# Altium footprint library DWM1000.PCBLIB: 1 footprints
Each footprint in its own frame and in the unit in brackets; x right, y up, seen from the top. Pads: shape width x height; smd on the part's side, far side on the other; paste and mask are expansions set on the pad; w line width, h text height; cw(c..) or ccw(c..) is an arc to the next point about the centre after c.
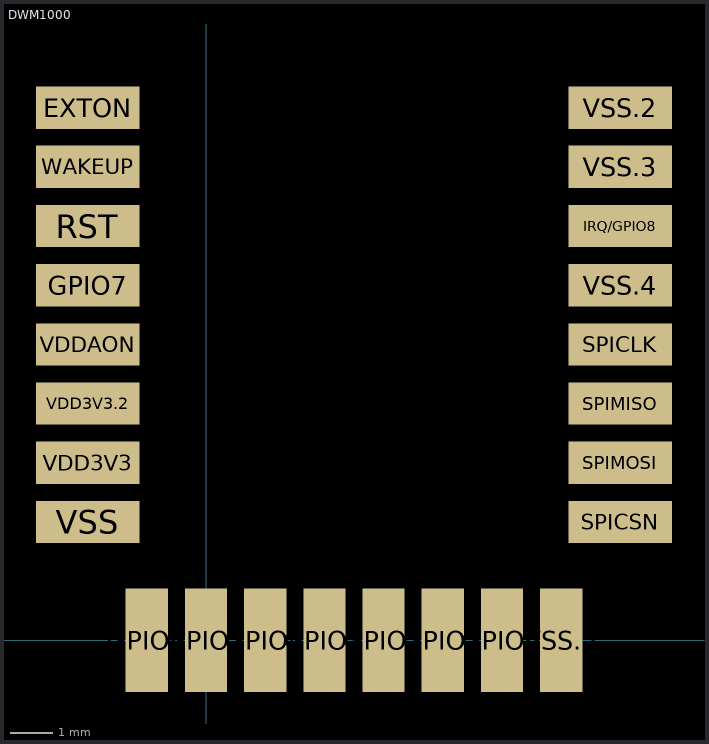
[diagram p0: the footprint, top view; thin cyan lines are the x and y axes]

## DWM1000 [mm]
pads (24):
  rect 2.45x1 smd: EXTON(-2.8,12.6) GPIO7(-2.8,8.4) IRQ/GPIO8(9.8,9.8) RST(-2.8,9.8) SPICLK(9.8,7) SPICSN(9.8,2.8) SPIMISO(9.8,5.6) SPIMOSI(9.8,4.2) VDD3V3(-2.8,4.2) VDD3V3.2(-2.8,5.6) VDDAON(-2.8,7) VSS(-2.8,2.8) VSS.2(9.8,12.6) VSS.3(9.8,11.2) VSS.4(9.8,8.4) WAKEUP(-2.8,11.2)
  rect 1x2.45 smd: GPIO0(7,0) GPIO1(5.6,0) GPIO2(4.2,0) GPIO3(2.8,0) GPIO4(1.4,0) GPIO5(0,0) GPIO6(-1.4,0) VSS.5(8.4,0)